# Altium footprint library PC JACK.PcbLib: 36 footprints (part 2 of 3)
Each footprint in its own frame and in the unit in brackets; x right, y up, seen from the top. Pads: shape width x height; smd on the part's side, far side on the other; paste and mask are expansions set on the pad; w line width, h text height; cw(c..) or ccw(c..) is an arc to the next point about the centre after c.
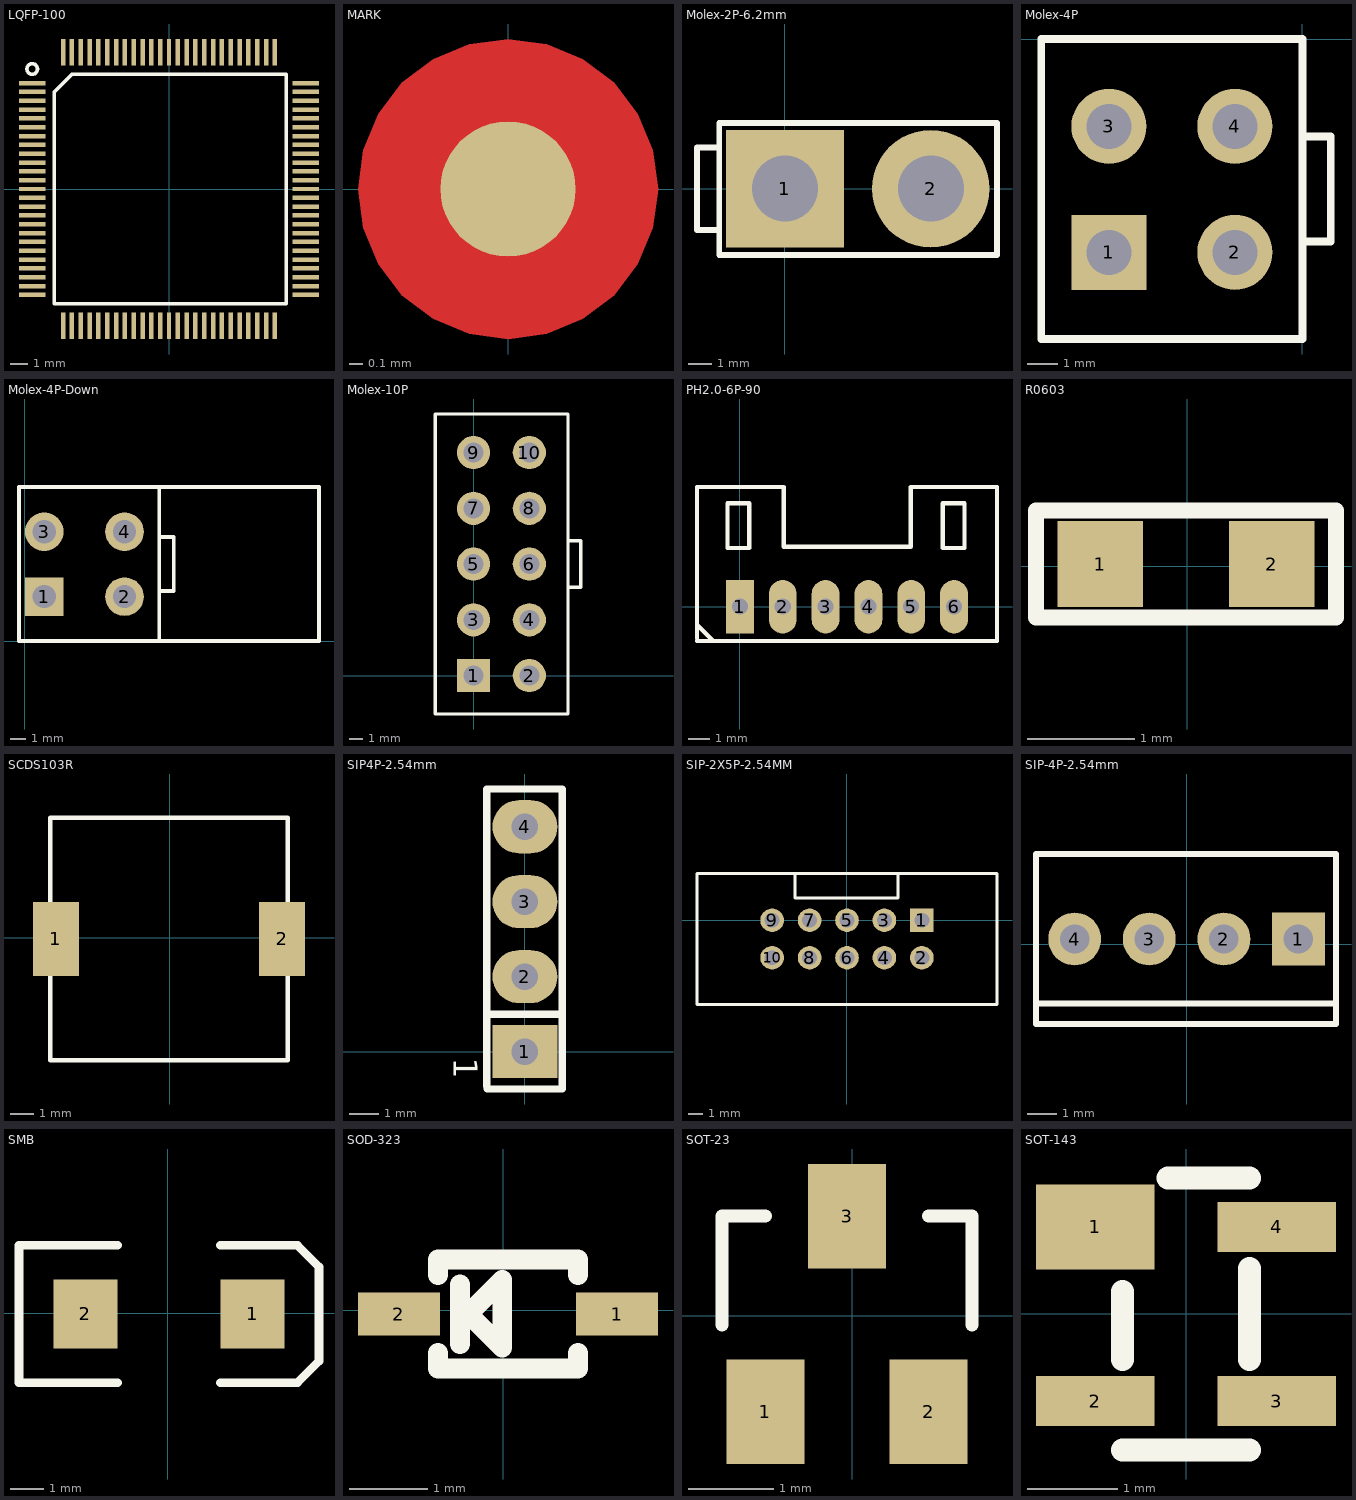
[diagram p1: the footprints below, top view; thin cyan lines are the x and y axes]

## LQFP-100 [mm]
height 2
pads (100):
  rect 1.5x0.254 smd: 1(-7.75,6) 2(-7.75,5.5) 3(-7.75,5) 4(-7.75,4.5) 5(-7.75,4) 6(-7.75,3.5) 7(-7.75,3) 8(-7.75,2.5) 9(-7.75,2) 10(-7.75,1.5) 11(-7.75,1) 12(-7.75,0.5) 13(-7.75,0) 14(-7.75,-0.5) 15(-7.75,-1) 16(-7.75,-1.5) 17(-7.75,-2) 18(-7.75,-2.5) 19(-7.75,-3) 20(-7.75,-3.5) 21(-7.75,-4) 22(-7.75,-4.5) 23(-7.75,-5) 24(-7.75,-5.5) 25(-7.75,-6) 51(7.75,-6) 52(7.75,-5.5) 53(7.75,-5) 54(7.75,-4.5) 55(7.75,-4) 56(7.75,-3.5) 57(7.75,-3) 58(7.75,-2.5) 59(7.75,-2) 60(7.75,-1.5) 61(7.75,-1) 62(7.75,-0.5) 63(7.75,0) 64(7.75,0.5) 65(7.75,1) 66(7.75,1.5) 67(7.75,2) 68(7.75,2.5) 69(7.75,3) 70(7.75,3.5) 71(7.75,4) 72(7.75,4.5) 73(7.75,5) 74(7.75,5.5) 75(7.75,6)
  rect 0.254x1.5 smd: 26(-6,-7.75) 27(-5.5,-7.75) 28(-5,-7.75) 29(-4.5,-7.75) 30(-4,-7.75) 31(-3.5,-7.75) 32(-3,-7.75) 33(-2.5,-7.75) 34(-2,-7.75) 35(-1.5,-7.75) 36(-1,-7.75) 37(-0.5,-7.75) 38(0,-7.75) 39(0.5,-7.75) 40(1,-7.75) 41(1.5,-7.75) 42(2,-7.75) 43(2.5,-7.75) 44(3,-7.75) 45(3.5,-7.75) 46(4,-7.75) 47(4.5,-7.75) 48(5,-7.75) 49(5.5,-7.75) 50(6,-7.75) 76(6,7.75) 77(5.5,7.75) 78(5,7.75) 79(4.5,7.75) 80(4,7.75) 81(3.5,7.75) 82(3,7.75) 83(2.5,7.75) 84(2,7.75) 85(1.5,7.75) 86(1,7.75) 87(0.5,7.75) 88(0,7.75) 89(-0.5,7.75) 90(-1,7.75) 91(-1.5,7.75) 92(-2,7.75) 93(-2.5,7.75) 94(-3,7.75) 95(-3.5,7.75) 96(-4,7.75) 97(-4.5,7.75) 98(-5,7.75) 99(-5.5,7.75) 100(-6,7.75)
Top Overlay:
  circle w0.2: c-7.75,6.8 r0.3
  lines w0.203: -6.5,-6.5 -6.5,5.5 -5.5,6.5 6.65,6.5 6.65,-6.5 -6.5,-6.5

## MARK [mm]
height 2
pads (1):
  round 1 smd paste-1.016 mask+0.5: ""(0,0)
Top Layer:
  pour cut-out: -1.109,0 -1.072,-0.287 -0.961,-0.555 -0.785,-0.785 -0.555,-0.961 -0.287,-1.072 0,-1.109 0.287,-1.072 0.555,-0.961 0.785,-0.785 0.961,-0.555 1.072,-0.287 1.109,0 1.072,0.287 0.961,0.555 0.785,0.785 0.555,0.961 0.287,1.072 0,1.109 -0.287,1.072 -0.555,0.961 -0.785,0.785 -0.961,0.555 -1.072,0.287

## Molex-2P-6.2mm [mm]
pads (2):
  rect 5x5 hole 2.8: 1(0,0)
  round 5 hole 2.8: 2(6.2,0)
Top Overlay:
  lines w0.254: -2.79,-1.747 -3.735,-1.747 -3.735,1.753 -2.79,1.753 ; -2.79,-2.819 9.01,-2.819 9.01,2.794 -2.79,2.794 -2.79,-2.819

## Molex-4P [mm]
pads (4):
  rect 2.5x2.5 hole 1.5: 1(-6.452,-7.112)
  round 2.5 hole 1.5: 2(-2.252,-7.112) 3(-6.452,-2.912) 4(-2.252,-2.912)
Top Overlay:
  lines w0.254: 0,-6.751 0.94,-6.751 0.94,-3.251 0,-3.251 ; -8.705,-10 -8.705,0 0,0 0,-10 -8.705,-10

## Molex-4P-Down [mm]
pads (4):
  rect 2.5x2.5 hole 1.5: 1(1.253,2.888)
  round 2.5 hole 1.5: 2(6.453,2.888) 3(1.253,7.088) 4(6.453,7.088)
Top Overlay:
  lines w0.254: 8.705,3.249 9.644,3.249 9.644,6.749 8.705,6.749 ; 8.705,0 -0.381,0 -0.381,10 8.705,10 ; 8.705,0 8.705,10 ; 8.705,0 19.05,0 19.05,10 8.705,10

## Molex-10P [mm]
height 2
pads (10):
  rect 2.5x2.5 hole 1.5: 1(0,0)
  round 2.5 hole 1.5: 2(4.2,0) 3(0,4.2) 4(4.2,4.2) 5(0,8.4) 6(4.2,8.4) 7(0,12.6) 8(4.2,12.6) 9(0,16.8) 10(4.2,16.8)
Top Overlay:
  lines w0.254: 7.132,6.65 8.077,6.65 8.077,10.15 7.132,10.15 ; -2.888,-2.896 -2.888,19.704 7.112,19.704 7.112,-2.896 -2.888,-2.896

## PH2.0-6P-90 [mm]
height 2
pads (6):
  rect 1.3x2.5 hole 0.75: 1(0,0)
  oval 1.3x2.5 hole 0.75: 2(2,0) 3(4,0) 4(6,0) 5(8,0) 6(10,0)
Top Overlay:
  lines w0.2: -1.97,-0.88 -1.27,-1.58
  lines w0.203: -2.003,5.588 2.041,5.588 2.041,2.792 7.971,2.792 7.971,5.586 ; -2,-1.6 12,-1.6 ; -2,-1.5 -2,5.588 ; 7.973,5.588 12.003,5.588 ; 12.006,5.588 12.006,-1.6 ; 12.005,-1.6 12.006,-1.6 ; -0.576,2.741 -0.576,4.824 0.44,4.824 0.44,2.741 -0.144,2.741 -0.576,2.741 ; 9.469,2.741 9.469,4.824 10.485,4.824 10.485,2.741 9.901,2.741 9.469,2.741

## R0603 [mm]
height 2
pads (2):
  rect 0.8x0.8 smd: 1(-0.81,0.02) 2(0.79,0.02)
Top Overlay:
  lines w0.152: -1.41,-0.48 -1.41,0.52 -0.01,0.52 1.39,0.52 1.39,-0.48 -0.01,-0.48 -1.41,-0.48

## SCDS103R [mm]
height 2
pads (2):
  rect 2x3.2 smd: 1(-4.931,-0.049) 2(4.869,-0.049)
Top Overlay:
  lines w0.2: -5.181,-5.299 -5.181,5.201 5.119,5.201 5.119,-5.299 -5.181,-5.299

## SIP4P-2.54mm [mm]
height 2
pads (4):
  rect 2.2x1.8 hole 0.9: 1(0,0)
  oval 2.2x1.8 hole 0.9: 2(0,2.54) 3(0,5.08) 4(0,7.62)
Top Overlay:
  lines w0.254: -1.29,-1.18 -1.29,8.9 ; -1.27,-1.27 1.27,-1.27 1.27,8.9 -1.27,8.9 ; -1.27,1.27 1.27,1.27
  text "1" at -2.413,-0.203 h0.81

## SIP-2X5P-2.54MM [mm]
height 2
pads (10):
  rect 1.6x1.6 hole 1: 1(5.096,-0.009)
  round 1.6 hole 1: 2(5.096,-2.549) 3(2.556,-0.009) 4(2.556,-2.549) 5(0.016,-0.009) 6(0.016,-2.549) 7(-2.524,-0.009) 8(-2.524,-2.549) 9(-5.064,-0.009) 10(-5.064,-2.549)
Top Overlay:
  lines w0.2: -3.524,3.141 -3.524,1.491 3.476,1.491 3.476,3.141 ; -10.159,-5.729 -10.159,3.171 10.191,3.171 10.191,-5.729 -10.159,-5.729

## SIP-4P-2.54mm [mm]
height 2
pads (4):
  rect 1.8x1.8 hole 1: 1(3.798,0.171)
  round 1.8 hole 1: 2(1.258,0.171) 3(-1.282,0.171) 4(-3.822,0.171)
Top Overlay:
  lines w0.2: -5.12,-2.029 5.078,-2.029 ; -5.14,-2.729 -5.14,3.071 5.078,3.071 5.078,-2.729 -5.14,-2.729

## SMB [mm]
height 2
pads (2):
  rect 1.905x2.032 smd: 1(2.52,-0.02) 2(-2.433,-0.02)
Top Overlay:
  lines w0.254: -1.48,-2.052 -4.401,-2.052 -4.401,2.012 -1.48,2.012 ; 1.568,-2.052 3.854,-2.052 4.489,-1.417 4.489,1.377 3.854,2.012 1.568,2.012

## SOD-323 [mm]
height 2
pads (2):
  rect 1.05x0.55 smd: 1(1.46,-0.05) 2(-1.34,-0.05)
Top Overlay:
  lines w0.254: -0.84,-0.55 -0.84,-0.75 0.96,-0.75 0.96,-0.55 ; -0.84,0.45 -0.84,0.65 0.96,0.65 0.96,0.45 ; -0.557,-0.436 -0.557,0.327 ; -0.449,-0.047 -0.013,0.388 -0.013,-0.48 -0.445,-0.048

## SOT-23 [mil]
height 78.74
pads (3):
  rect 36x48 smd: 1(-39.96,-44.09) 2(35.04,-44.09) 3(-2.46,45.91)
Top Overlay:
  lines w6: -59.96,-4.09 -59.96,45.91 -39.96,45.91 ; 35.04,45.91 55.04,45.91 55.04,-4.09

## SOT-143 [mm]
height 2
pads (4):
  rect 1.31x0.94 smd: 1(-1,0.96)
  rect 1.31x0.55 smd: 2(-1,-0.96) 3(1,-0.96) 4(1,0.96)
Top Overlay:
  lines w0.254: -0.7,-1.5 0.7,-1.5 ; -0.7,-0.5 -0.7,0.25 ; -0.2,1.5 0.7,1.5 ; 0.7,-0.5 0.7,0.5